# EAGLE library part HEF4067B (library display)
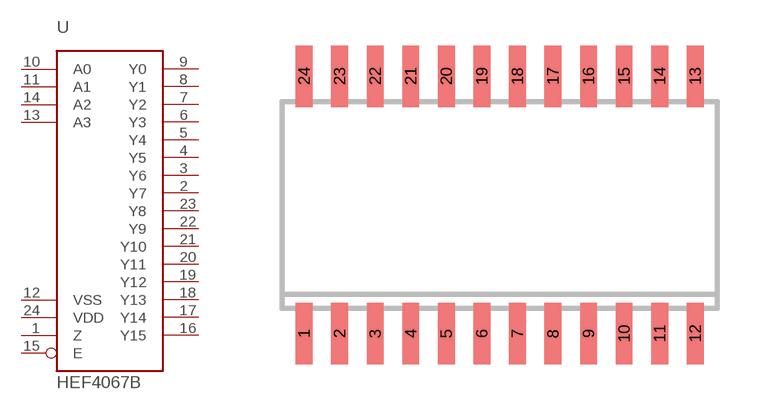
[diagram p0: symbol with the pads of SO24W; footprint SO24W]

Designator prefix -

## HEF4067B  [SO24W]
1  Z
2  Y7
3  Y6
4  Y5
5  Y4
6  Y3
7  Y2
8  Y1
9  Y0
10  A0
11  A1
12  VSS
13  A3
14  A2
15  E
16  Y15
17  Y14
18  Y13
19  Y12
20  Y11
21  Y10
22  Y9
23  Y8
24  VDD

## Footprint SO24W (pad centres in mm)
SMALL OUTLINE INTEGRATED CIRCUIT wide body 7.5 mm/JEDEC MO-119AA
smd 0.6 x 2.2: 1 -6.985,-4.6; 2 -5.715,-4.6; 3 -4.445,-4.6; 4 -3.175,-4.6; 5 -1.905,-4.6; 6 -0.635,-4.6; 7 0.635,-4.6; 8 1.905,-4.6; 9 3.175,-4.6; 10 4.445,-4.6; 11 5.715,-4.6; 12 6.985,-4.6; 13 6.985,4.6; 14 5.715,4.6; 15 4.445,4.6; 16 3.175,4.6; 17 1.905,4.6; 18 0.635,4.6; 19 -0.635,4.6; 20 -1.905,4.6; 21 -3.175,4.6; 22 -4.445,4.6; 23 -5.715,4.6; 24 -6.985,4.6